# Altium footprint library 28Pins_Project_V1I1.PcbLib: 26 footprints (part 2 of 2)
Each footprint in its own frame and in the unit in brackets; x right, y up, seen from the top. Pads: shape width x height; smd on the part's side, far side on the other; paste and mask are expansions set on the pad; w line width, h text height; cw(c..) or ccw(c..) is an arc to the next point about the centre after c.
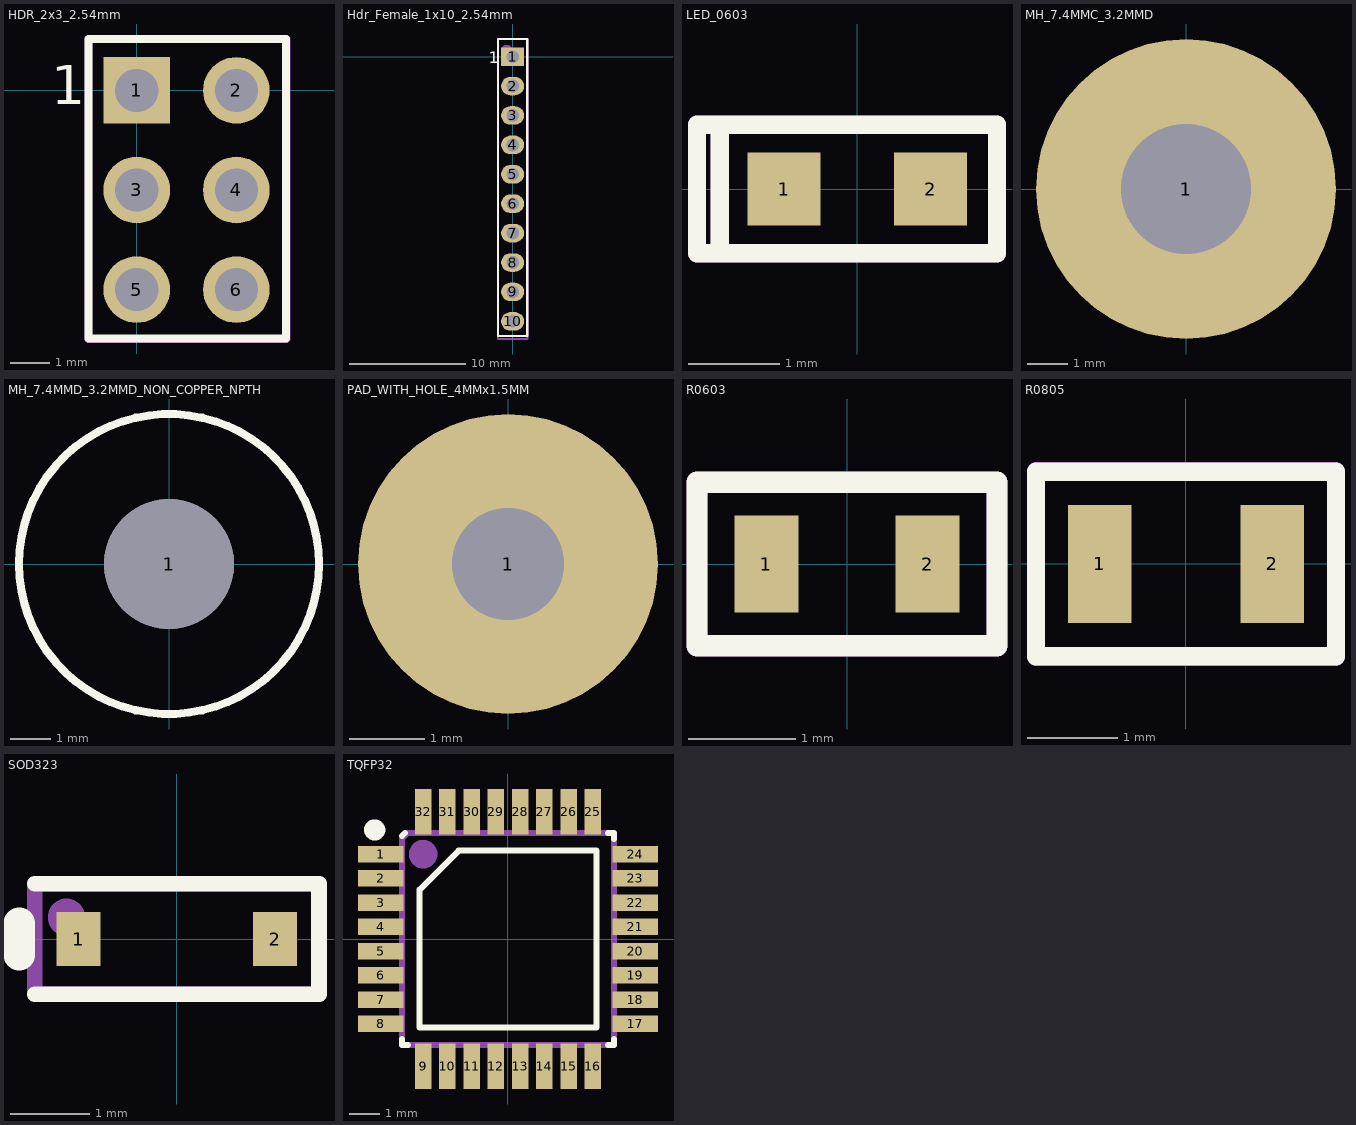
[diagram p1: the footprints below, top view; thin cyan lines are the x and y axes]

## HDR_2x3_2.54mm [mm]
pads (6):
  rect 1.7x1.7 hole 1.1: 1(0,0)
  round 1.7 hole 1.1: 2(2.54,0) 3(0,-2.54) 4(2.54,-2.54) 5(0,-5.08) 6(2.54,-5.08)
Top Overlay:
  lines w0.2: -1.23,-6.325 3.81,-6.325 3.81,1.311 -1.23,1.311 -1.23,-6.325
  text "1" at -2.175,-0.35 h1
Route Tool Path (Mech29):
  circle w0.8: c-0.38,0.385 r0.025
  lines w0.2: -1.23,-6.34 3.82,-6.34 ; -1.23,-6.315 -1.23,1.31 3.82,1.31 3.82,-6.315
  text ".Designator" at 2.033,-4.286 h1.52
3D body "m20-97203xx_asm.stp": height 9.85, standoff -2.75, extent -1.245,-6.299 3.835,1.321

## Hdr_Female_1x10_2.54mm [mm]
pads (10):
  rect 2x1.6 hole 1.1: 1(0,0)
  oval 2x1.6 hole 1.1: 2(0,-2.54) 3(0,-5.08) 4(0,-7.62) 5(0,-10.16) 6(0,-12.7) 7(0,-15.24) 8(0,-17.78) 9(0,-20.32) 10(0,-22.86)
Top Overlay:
  lines w0.2: -1.27,-24.13 1.27,-24.13 1.27,1.524 0.889,1.524 -0.889,1.524 -1.27,1.524 -1.27,-24.13
  text "1" at -2.076,-0.552 h1
Route Tool Path (Mech29):
  circle w0.5: c-0.508,0.508 r0.254
  lines w0.2: -1.27,-24.384 -1.27,1.524 1.27,1.524 1.27,-24.384 0.381,-24.384 -0.381,-24.384 -1.27,-24.384
  text ".Designator" at 0.508,-15.748 h1.52
3D body "m20-7821046_asm.stp": height 9, standoff -2.5, extent -1.23,-24.384 1.27,1.416

## LED_0603 [mm]
pads (2):
  rect 0.8x0.8 smd: 1(-0.8,0) 2(0.8,0)
Top Overlay:
  lines w0.2: -1.5,-0.7 1.525,-0.7 1.525,0.7 -1.5,0.7 ; -1.5,-0.7 -1.5,0.7 ; -1.5,-0.7 -1.75,-0.7 -1.75,0.7 -1.5,0.7
Route Tool Path (Mech29):
  lines w0.2: -1.5,-0.7 -1.5,0.6 ; -1.75,-0.7 1.525,-0.7 1.525,0.7 -1.75,0.7 -1.75,-0.7
  text ".Designator" at -1.075,-0.3 h0.6
3D body "User Library-LED SMD 0603 super red.step": height 0.66, standoff 0.01, extent -0.85,-0.4 0.85,0.4
3D body: height 0.67, standoff 0.5, extent -0.2,-0.2 0.2,0.2

## MH_7.4MMC_3.2MMD [mm]
pads (1):
  round 7.4 hole 3.2: 1(0,0)

## MH_7.4MMD_3.2MMD_NON_COPPER_NPTH [mm]
pads (1):
  round 3.2 hole 3.2 unplated: 1(0,0)
Top Overlay:
  circle w0.2: c0,0 r3.7

## PAD_WITH_HOLE_4MMx1.5MM [mm]
pads (1):
  round 4 hole 1.5 mask+0.05: 1(0,0)

## R0603 [mm]
pads (2):
  rect 0.6x0.9 smd: 1(-0.75,0) 2(0.75,0)
Top Overlay:
  lines w0.2: -1.397,-0.762 -1.397,0.762 1.397,0.762 1.397,-0.762 -1.397,-0.762
Route Tool Path (Mech29):
  lines w0.2: -1.397,-0.762 -1.397,0.762 1.397,0.762 1.397,-0.762 -1.397,-0.762
  text ".Designator" at -0.789,-0.335 h0.6
3D body "R0603.step": height 0.85, standoff 0.01, extent -0.8,-0.4 0.8,0.4

## R0805 [mm]
pads (2):
  rect 0.7x1.3 smd: 1(-0.95,0) 2(0.95,0)
Top Overlay:
  lines w0.2: -1.651,-1.016 -1.651,1.016 1.651,1.016 1.651,-1.016 -1.651,-1.016
Route Tool Path (Mech29):
  lines w0.2: -1.65,-1.025 1.65,-1.025 1.65,1.025 -1.65,1.025 -1.65,-1.025
  text ".Designator" at -1.325,-0.675 h0.8
3D body "User Library-Chip Resistor2.step": height 0.71, standoff 0.01, extent -1,-0.6 1,0.6

## SOD323 [mil]
pads (2):
  rect 22x27 smd: 1(-49,0) 2(49,0)
Top Overlay:
  lines w7.87: -70.87,-27.56 70.87,-27.56 70.87,27.56 -70.87,27.56
  lines w15.75: -78.74,-7.87 -78.74,7.87
Route Tool Path (Mech29):
  circle w15.75: c-55.12,10.83 r1.39
  lines w7.87: -70.87,-27.56 70.87,-27.56 70.87,27.56 -70.87,27.56 -70.87,-27.56
  text ".Designator" at -31.5,-15.75 h15.75
3D body "User Library-SOD323.step": height 39.48, standoff 0.5, extent -48.23,-24.61 50.2,24.61

## TQFP32 [mm]
pads (32):
  rect 1.5x0.55 smd mask+0.06: 1(-4.2,2.8) 2(-4.2,2) 3(-4.2,1.2) 4(-4.2,0.4) 5(-4.2,-0.4) 6(-4.2,-1.2) 7(-4.2,-2) 8(-4.2,-2.8) 17(4.2,-2.8) 18(4.2,-2) 19(4.2,-1.2) 20(4.2,-0.4) 21(4.2,0.4) 22(4.2,1.2) 23(4.2,2) 24(4.2,2.8)
  rect 0.55x1.5 smd mask+0.06: 9(-2.8,-4.2) 10(-2,-4.2) 11(-1.2,-4.2) 12(-0.4,-4.2) 13(0.4,-4.2) 14(1.2,-4.2) 15(2,-4.2) 16(2.8,-4.2) 25(2.8,4.2) 26(2,4.2) 27(1.2,4.2) 28(0.4,4.2) 29(-0.4,4.2) 30(-1.2,4.2) 31(-2,4.2) 32(-2.8,4.2)
Top Overlay:
  circle w0.5: c-4.4,3.6 r0.1
  lines w0.2: -3.5,-3.3 -3.5,-3.4 -3.5,-3.5 -3.3,-3.5 ; -3.5,3.4 -3.4,3.5 ; 3.3,-3.5 3.5,-3.5 3.5,-3.3 ; 3.3,3.5 3.5,3.5 3.5,3.3 ; -2.915,-2.915 2.915,-2.915 2.915,2.915 -1.63,2.915 -2.915,1.63 -2.915,-2.915
Route Tool Path (Mech29):
  circle w0.5: c-2.8,2.8 r0.224
  lines w0.2: -3.5,-3.5 3.5,-3.5 3.5,3.5 -3.3,3.5 -3.5,3.3 -3.5,-3.5
  text ".Designator" at -2.2,-0.8 h1.8
3D body "User Library-tqfp32.step": height 1.2, standoff 0, extent -4.599,-4.6 4.599,4.599